# Altium schematic symbol library Schlib1.SchLib: 2 symbols
Pins are listed as number, name and electrical type; pins without a type are passive.

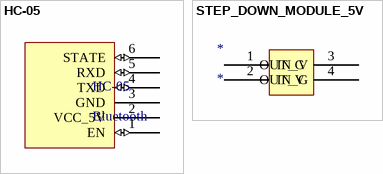
[diagram p0: symbols HC-05 to STEP_DOWN_MODULE_5V]

## HC-05
designator HC-05, comment Bluetooth
footprint hc-05
pins: 1 EN (io), 2 VCC_5V (power), 3 GND, 4 TXD (io), 5 RXD (io), 6 STATE (io)

## STEP_DOWN_MODULE_5V
designator *
footprint STEP_DOWN_MODULE_5V
footprint Model Name (Footprint not found)
footprint STEP_DOWN_MODULE_5V
pins: 1 IN_V (power), 2 IN_G, 3 OUT_G (power), 4 OUT_V